# Altium footprint library Fiducial.PcbLib: 10 footprints
Each footprint in its own frame and in the unit in brackets; x right, y up, seen from the top. Pads: shape width x height; smd on the part's side, far side on the other; paste and mask are expansions set on the pad; w line width, h text height; cw(c..) or ccw(c..) is an arc to the next point about the centre after c.
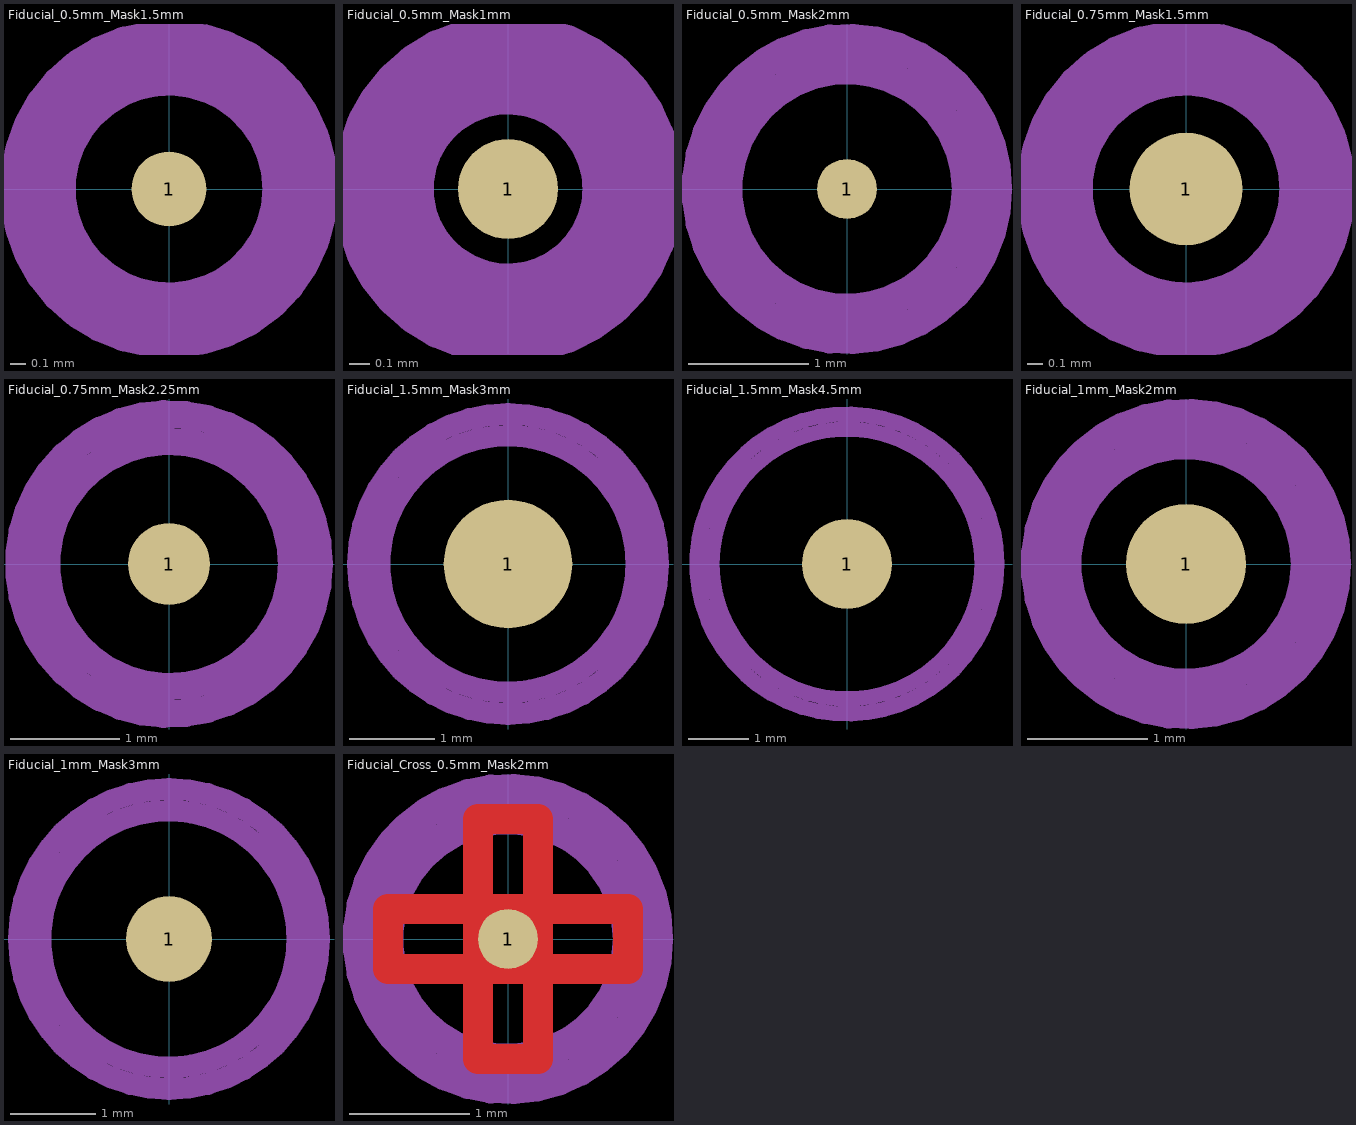
[diagram p0: the footprints below, top view; thin cyan lines are the x and y axes]

## Fiducial_0.5mm_Mask1.5mm [mm]
pads (1):
  round 0.5 smd: 1(0,0)
Top Component Center:
  lines w0.127: -0.127,0 0.127,0 ; 0,-0.127 0,0.127
Top Assembly:
  circle w0.254: c0,0 r0.75
Top Courtyard:
  circle w0.254: c0,0 r1
Top Designator:
  text ".Designator" at -3.434,-0.345 h1.52

## Fiducial_0.5mm_Mask1mm [mm]
pads (1):
  round 0.5 smd: 1(0,0)
Top Assembly:
  circle w0.254: c0,0 r0.5
Top Courtyard:
  circle w0.254: c0,0 r0.75
Top Designator:
  text ".Designator" at -1.69,-0.17 h0.75

## Fiducial_0.5mm_Mask2mm [mm]
pads (1):
  round 0.5 smd: 1(0,0)
Top Assembly:
  circle w0.254: c0,0 r1
Top Courtyard:
  circle w0.254: c0,0 r1.25
Top Designator:
  text ".Designator" at -1.77,-0.17 h0.75

## Fiducial_0.75mm_Mask1.5mm [mm]
pads (1):
  round 0.75 smd: 1(0,0)
Top Assembly:
  circle w0.254: c0,0 r0.75
Top Courtyard:
  circle w0.254: c0,0 r1
Top Designator:
  text ".Designator" at -1.75,-0.17 h0.75

## Fiducial_0.75mm_Mask2.25mm [mm]
pads (1):
  round 0.75 smd: 1(0,0)
Top Assembly:
  circle w0.254: c0,0 r1.125
Top Courtyard:
  circle w0.254: c0,0 r1.375
Top Designator:
  text ".Designator" at -1.77,-0.17 h0.75

## Fiducial_1.5mm_Mask3mm [mm]
pads (1):
  round 1.5 smd: 1(0,0)
Top Assembly:
  circle w0.254: c0,0 r1.5
Top Courtyard:
  circle w0.254: c0,0 r1.75
Top Designator:
  text ".Designator" at -2.363,-0.227 h1

## Fiducial_1.5mm_Mask4.5mm [mm]
pads (1):
  round 1.5 smd: 1(0,0)
Top Assembly:
  circle w0.254: c0,0 r2.25
Top Courtyard:
  circle w0.254: c0,0 r2.5
Top Designator:
  text ".Designator" at -1.84,-0.17 h0.75

## Fiducial_1mm_Mask2mm [mm]
pads (1):
  round 1 smd: 1(0,0)
Top Assembly:
  circle w0.254: c0,0 r1
Top Courtyard:
  circle w0.254: c0,0 r1.25
Top Designator:
  text ".Designator" at -2.333,-0.227 h1

## Fiducial_1mm_Mask3mm [mm]
pads (1):
  round 1 smd: 1(0,0)
Top Assembly:
  circle w0.254: c0,0 r1.5
Top Courtyard:
  circle w0.254: c0,0 r1.75
Top Designator:
  text ".Designator" at -3.434,-0.345 h1.52

## Fiducial_Cross_0.5mm_Mask2mm [mm]
pads (1):
  round 0.5 smd: 1(0,0)
F.Cu:
  lines w0.254: -1,-0.25 1,-0.25 1,0.25 -1,0.25 -1,-0.25 ; -0.25,-1 0.25,-1 0.25,1 -0.25,1 -0.25,-1
Top Assembly:
  circle w0.254: c0,0 r1
Top Courtyard:
  circle w0.254: c0,0 r1.25
Top Designator:
  text ".Designator" at -2.333,-0.227 h1